# EAGLE library part MAX14830ETM+ (library MAX14830)
SPI to 4 UART
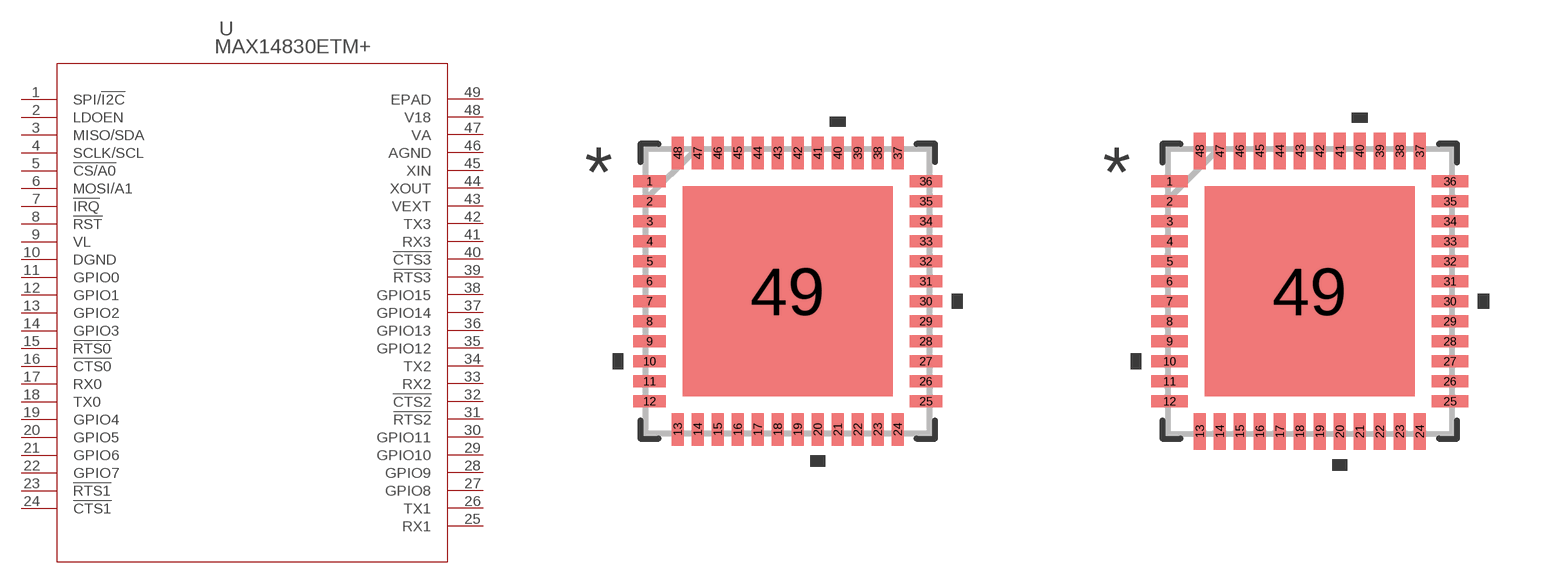
[diagram p0: symbol with the pads of 21-0144H_T4877-3; footprints 21-0144H_T4877-3, 21-0144H_T4877-3-M]

Designator prefix U

## MAX14830ETM+ (MANUFACTURER_PART_NUMBER: MAX14830ETM+; VENDOR: Maxim Integrated Products)  [21-0144H_T4877-3]
1  SPI/!I2C  pas
2  LDOEN  pas
3  MISO/SDA  pas
4  SCLK/SCL  pas
5  !CS/A0  pas
6  MOSI/A1  pas
7  !IRQ  pas
8  !RST  pas
9  VL  pwr
10  DGND  pwr
11  GPIO0  pas
12  GPIO1  pas
13  GPIO2  pas
14  GPIO3  pas
15  !RTS0  pas
16  !CTS0  pas
17  RX0  pas
18  TX0  pas
19  GPIO4  pas
20  GPIO5  pas
21  GPIO6  pas
22  GPIO7  pas
23  !RTS1  pas
24  !CTS1  pas
25  RX1  pas
26  TX1  pas
27  GPIO8  pas
28  GPIO9  pas
29  GPIO10  pas
30  GPIO11  pas
31  !RTS2  pas
32  !CTS2  pas
33  RX2  pas
34  TX2  pas
35  GPIO12  pas
36  GPIO13  pas
37  GPIO14  pas
38  GPIO15  pas
39  !RTS3  pas
40  !CTS3  pas
41  RX3  pas
42  TX3  pas
43  VEXT  pas
44  XOUT  pas
45  XIN  pas
46  AGND  pwr
47  VA  pas
48  V18  pwr
49  EPAD  pas

## MAX14830ETM+21-0144H_T4877-3-M (MANUFACTURER_PART_NUMBER: MAX14830ETM+; VENDOR: Maxim Integrated Products)  [21-0144H_T4877-3-M]
Pads as for 21-0144H_T4877-3

## MAX14830ETM+21-0144H_T4877-3-L (MANUFACTURER_PART_NUMBER: MAX14830ETM+; VENDOR: Maxim Integrated Products)  [21-0144H_T4877-3-L]
Pads as for 21-0144H_T4877-3

## Footprint 21-0144H_T4877-3 (pad centres in mm)
smd 0.813 x 0.305: 1 -3.454,2.75; 2 -3.454,2.25; 3 -3.454,1.75; 4 -3.454,1.25; 5 -3.454,0.75; 6 -3.454,0.25; 7 -3.454,-0.25; 8 -3.454,-0.75; 9 -3.454,-1.25; 10 -3.454,-1.75; 11 -3.454,-2.25; 12 -3.454,-2.75; 25 3.454,-2.75; 26 3.454,-2.25; 27 3.454,-1.75; 28 3.454,-1.25; 29 3.454,-0.75; 30 3.454,-0.25; 31 3.454,0.25; 32 3.454,0.75; 33 3.454,1.25; 34 3.454,1.75; 35 3.454,2.25; 36 3.454,2.75
smd 0.305 x 0.813: 13 -2.75,-3.454; 14 -2.25,-3.454; 15 -1.75,-3.454; 16 -1.25,-3.454; 17 -0.75,-3.454; 18 -0.25,-3.454; 19 0.25,-3.454; 20 0.75,-3.454; 21 1.25,-3.454; 22 1.75,-3.454; 23 2.25,-3.454; 24 2.75,-3.454; 37 2.75,3.454; 38 2.25,3.454; 39 1.75,3.454; 40 1.25,3.454; 41 0.75,3.454; 42 0.25,3.454; 43 -0.25,3.454; 44 -0.75,3.454; 45 -1.25,3.454; 46 -1.75,3.454; 47 -2.25,3.454; 48 -2.75,3.454
smd 5.258 x 5.258: 49 0,0

## Footprint 21-0144H_T4877-3-M (pad centres in mm)
smd 0.914 x 0.305: 1 -3.505,2.75; 2 -3.505,2.25; 3 -3.505,1.75; 4 -3.505,1.25; 5 -3.505,0.75; 6 -3.505,0.25; 7 -3.505,-0.25; 8 -3.505,-0.75; 9 -3.505,-1.25; 10 -3.505,-1.75; 11 -3.505,-2.25; 12 -3.505,-2.75; 25 3.505,-2.75; 26 3.505,-2.25; 27 3.505,-1.75; 28 3.505,-1.25; 29 3.505,-0.75; 30 3.505,-0.25; 31 3.505,0.25; 32 3.505,0.75; 33 3.505,1.25; 34 3.505,1.75; 35 3.505,2.25; 36 3.505,2.75
smd 0.305 x 0.914: 13 -2.75,-3.505; 14 -2.25,-3.505; 15 -1.75,-3.505; 16 -1.25,-3.505; 17 -0.75,-3.505; 18 -0.25,-3.505; 19 0.25,-3.505; 20 0.75,-3.505; 21 1.25,-3.505; 22 1.75,-3.505; 23 2.25,-3.505; 24 2.75,-3.505; 37 2.75,3.505; 38 2.25,3.505; 39 1.75,3.505; 40 1.25,3.505; 41 0.75,3.505; 42 0.25,3.505; 43 -0.25,3.505; 44 -0.75,3.505; 45 -1.25,3.505; 46 -1.75,3.505; 47 -2.25,3.505; 48 -2.75,3.505
smd 5.258 x 5.258: 49 0,0

## Footprint 21-0144H_T4877-3-L (pad centres in mm)
smd 0.711 x 0.305: 1 -3.404,2.75; 2 -3.404,2.25; 3 -3.404,1.75; 4 -3.404,1.25; 5 -3.404,0.75; 6 -3.404,0.25; 7 -3.404,-0.25; 8 -3.404,-0.75; 9 -3.404,-1.25; 10 -3.404,-1.75; 11 -3.404,-2.25; 12 -3.404,-2.75; 25 3.404,-2.75; 26 3.404,-2.25; 27 3.404,-1.75; 28 3.404,-1.25; 29 3.404,-0.75; 30 3.404,-0.25; 31 3.404,0.25; 32 3.404,0.75; 33 3.404,1.25; 34 3.404,1.75; 35 3.404,2.25; 36 3.404,2.75
smd 0.305 x 0.711: 13 -2.75,-3.404; 14 -2.25,-3.404; 15 -1.75,-3.404; 16 -1.25,-3.404; 17 -0.75,-3.404; 18 -0.25,-3.404; 19 0.25,-3.404; 20 0.75,-3.404; 21 1.25,-3.404; 22 1.75,-3.404; 23 2.25,-3.404; 24 2.75,-3.404; 37 2.75,3.404; 38 2.25,3.404; 39 1.75,3.404; 40 1.25,3.404; 41 0.75,3.404; 42 0.25,3.404; 43 -0.25,3.404; 44 -0.75,3.404; 45 -1.25,3.404; 46 -1.75,3.404; 47 -2.25,3.404; 48 -2.75,3.404
smd 5.258 x 5.258: 49 0,0